# Altium footprint library LC-SSOP-16_208mil.PcbLib: 1 footprints
Each footprint in its own frame and in the unit in brackets; x right, y up, seen from the top. Pads: shape width x height; smd on the part's side, far side on the other; paste and mask are expansions set on the pad; w line width, h text height; cw(c..) or ccw(c..) is an arc to the next point about the centre after c.
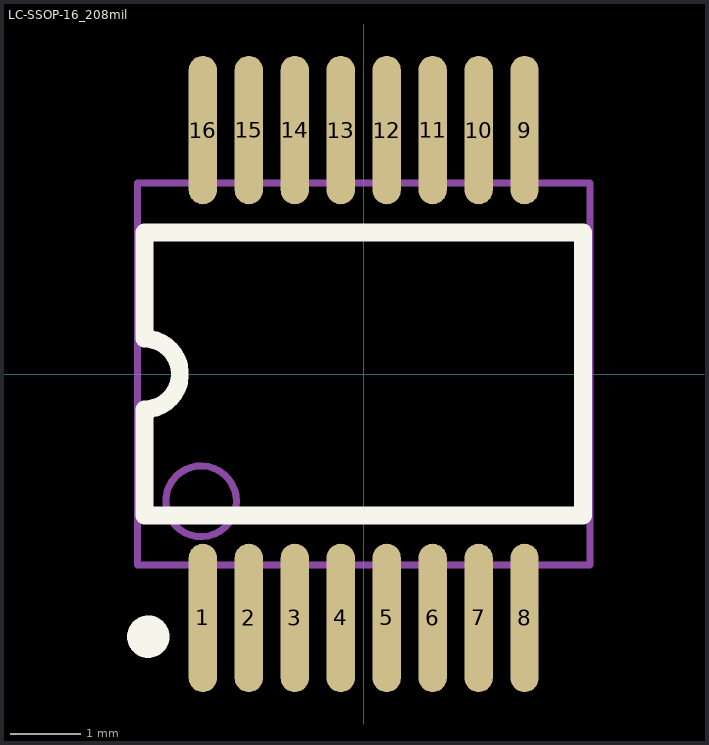
[diagram p0: the footprint, top view; thin cyan lines are the x and y axes]

## LC-SSOP-16_208mil [mm]
pads (16):
  oval 0.4x2.1 smd mask+0.051: 1(-2.275,-3.45) 2(-1.625,-3.45) 3(-0.975,-3.45) 4(-0.325,-3.45) 5(0.325,-3.45) 6(0.975,-3.45) 7(1.625,-3.45) 8(2.275,-3.45) 9(2.275,3.45) 10(1.625,3.45) 11(0.975,3.45) 12(0.325,3.45) 13(-0.325,3.45) 14(-0.975,3.45) 15(-1.625,3.45) 16(-2.275,3.45)
Top Overlay:
  circle w0.3: c-3.047,-3.715 r0.15
  lines w0.254: -3.1,-2 -3.1,-0.5 ccw(c-3.1,0) -3.1,0.5 -3.1,2 3.1,2 3.1,-2 -3.1,-2
Mechanical 13:
  circle w0.1: c-2.3,-1.8 r0.5
  lines w0.1: -3.2,-2.7 3.2,-2.7 3.2,2.7 -3.2,2.7 -3.2,-2.7